# EAGLE library part MAX3051EKA+T (library circuit_tree)
IC
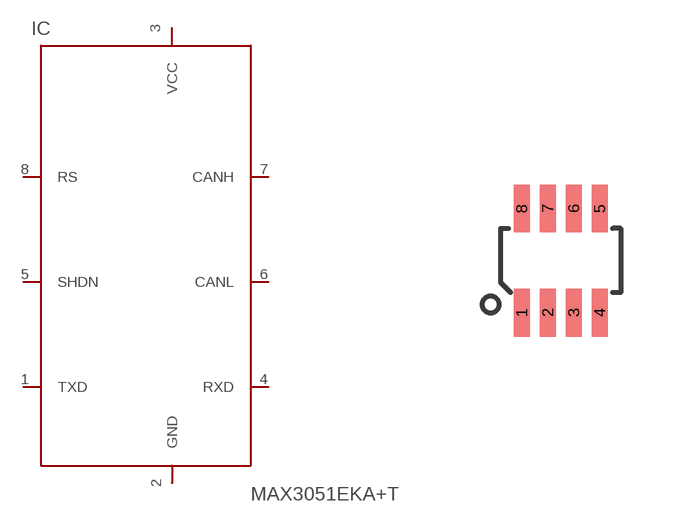
[diagram p5: symbol with the pads of SOT-23-8; footprint SOT-23-8]

Designator prefix IC

## MAX3051EKA+T  [SOT-23-8]
1  TXD  pas
2  GND  pas
3  VCC  pas
4  RXD  pas
5  SHDN  pas
6  CANL  pas
7  CANH  pas
8  RS  pas

## Footprint SOT-23-8 (pad centres in mm)
smd 0.4 x 1.2: 1 -0.975,-1.3; 2 -0.325,-1.3; 3 0.325,-1.3; 4 0.975,-1.3; 5 0.975,1.3; 6 0.325,1.3; 7 -0.325,1.3; 8 -0.975,1.3